# Altium footprint library Connectors.PcbLib: 13 footprints
Each footprint in its own frame and in the unit in brackets; x right, y up, seen from the top. Pads: shape width x height; smd on the part's side, far side on the other; paste and mask are expansions set on the pad; w line width, h text height; cw(c..) or ccw(c..) is an arc to the next point about the centre after c.
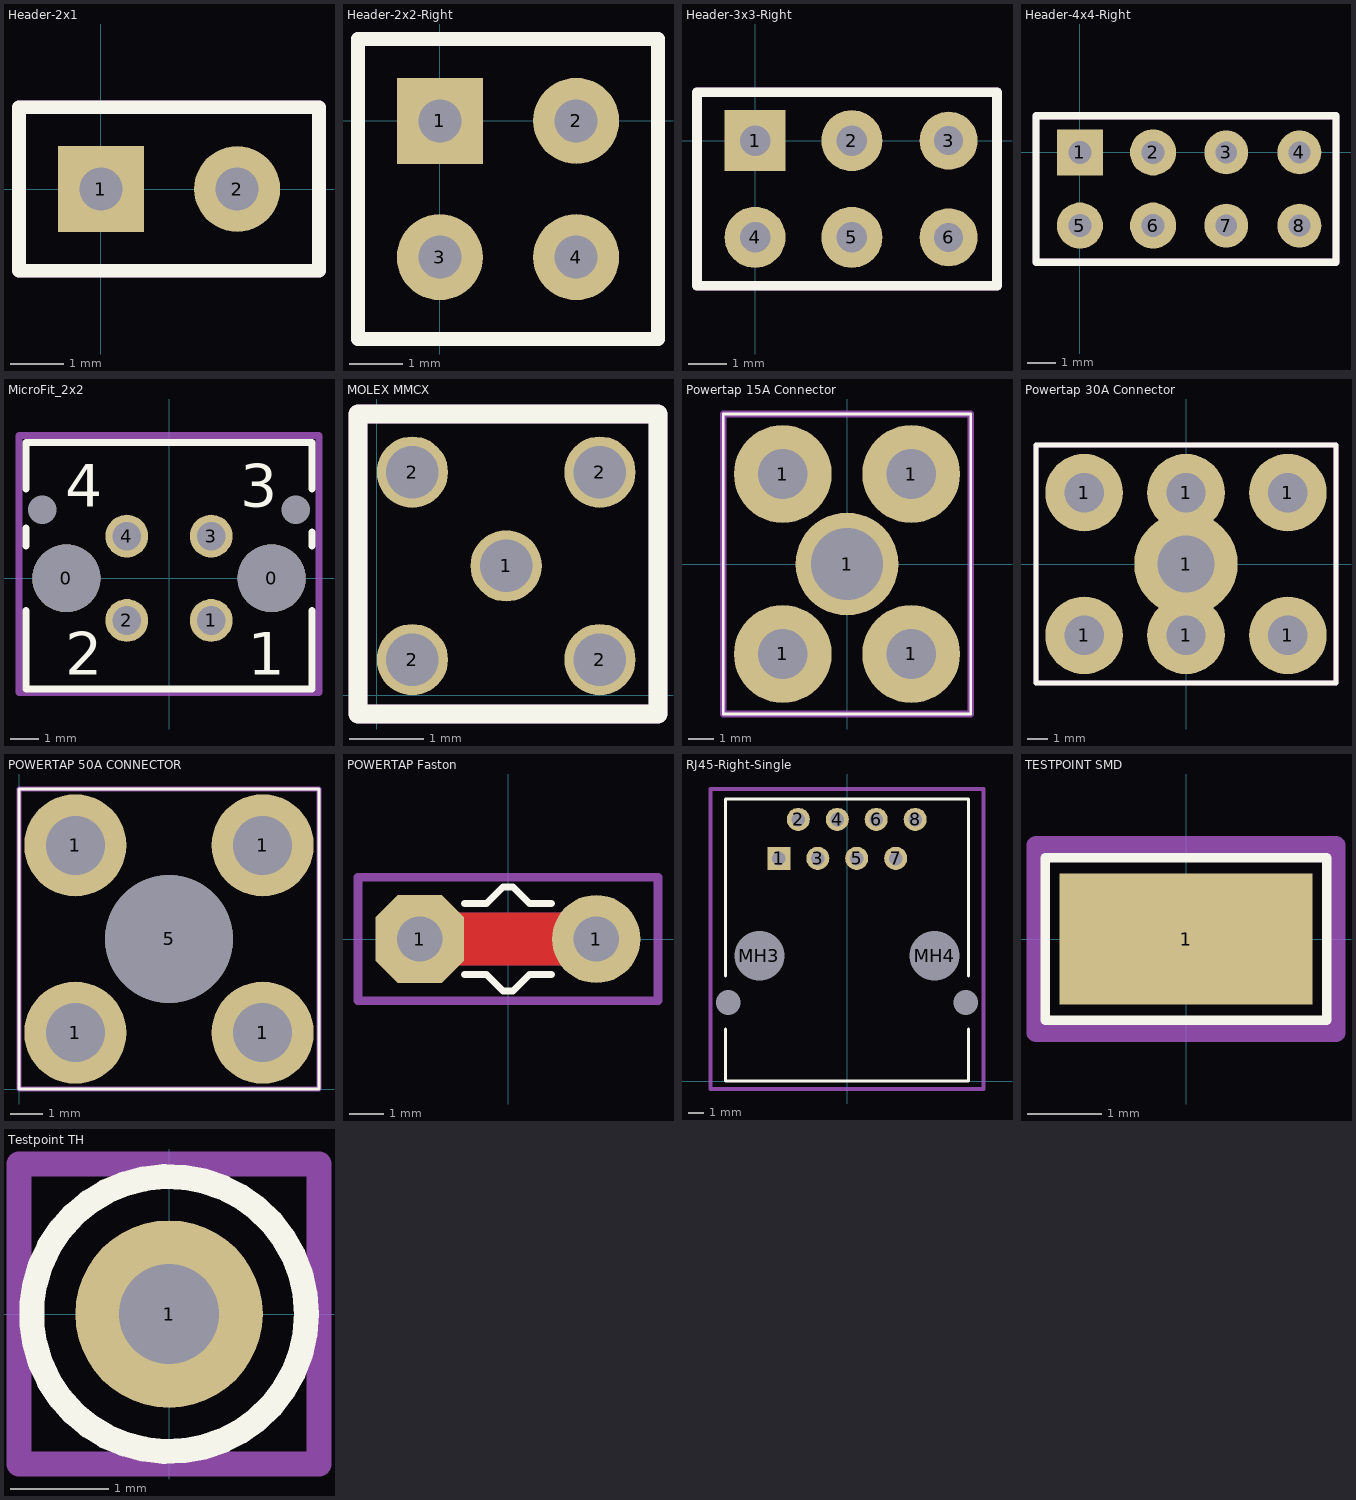
[diagram p0: the footprints below, top view; thin cyan lines are the x and y axes]

## Header-2x1 [mm] "BERGSTIK II SR RET_20Pins-2Rows"
pads (2):
  rect 1.6x1.6 hole 0.8: 1(0,0)
  round 1.6 hole 0.8: 2(2.54,0)
Top Overlay:
  lines w0.254: -1.524,-1.524 -1.524,0 -1.524,1.524 3.81,1.524 4.064,1.524 4.064,-1.524 -1.524,-1.524
Mechanical 15:
  lines w0.254: -1.524,-1.524 -1.524,1.524 4.064,1.524 4.064,-1.524 -1.524,-1.524
  text "'.Designator'" at -1.27,-0.254 h1
3D body: height 0, standoff -4.1, extent -0.496,-0.499 0.5,0.499

## Header-2x2-Right [mm] "BERGSTIK II SR RIGHT ANGLE RET_20Pins-2Rows"
pads (4):
  rect 1.6x1.6 hole 0.8: 1(0,0)
  round 1.6 hole 0.8: 2(2.54,0) 3(0,-2.54) 4(2.54,-2.54)
Top Overlay:
  lines w0.254: -1.524,-4.064 4.064,-4.064 4.064,1.524 3.81,1.524 -1.524,1.524 -1.524,0 -1.524,-4.064
Mechanical 15:
  lines w0.254: -1.524,-4.064 4.064,-4.064 4.064,1.524 -1.524,1.524 -1.524,-4.064
  text "'.Designator'" at -1.016,-1.524 h1
3D body: height 0, standoff -4.1, extent -0.496,-0.499 0.5,0.499

## Header-3x3-Right [mm] "BERGSTIK II SR RIGHT ANGLE RET_20Pins-2Rows"
pads (6):
  rect 1.6x1.6 hole 0.8: 1(0,0)
  round 1.6 hole 0.8: 2(2.54,0) 4(0,-2.54) 5(2.54,-2.54)
  round 1.524 hole 0.762: 3(5.08,0) 6(5.08,-2.54)
Top Overlay:
  lines w0.254: -1.524,-3.81 6.35,-3.81 6.35,1.27 -1.524,1.27 -1.524,-3.81
Mechanical 15:
  lines w0.254: -1.524,-3.81 -1.524,1.27 6.35,1.27 6.35,-3.81 -1.524,-3.81
  text "'.Designator'" at 0.254,-1.524 h1
3D body: height 0, standoff -4.1, extent -0.496,-0.499 0.5,0.499

## Header-4x4-Right [mil] "BERGSTIK II SR RIGHT ANGLE RET_20Pins-2Rows"
pads (8):
  rect 62.99x62.99 hole 31.5: 1(0,0)
  round 62.99 hole 31.5: 2(100,0) 5(0,-100) 6(100,-100)
  round 60 hole 30: 3(200,0) 4(300,0) 7(200,-100) 8(300,-100)
Top Overlay:
  lines w10: -60,-150 -60,50 350,50 350,-150 -60,-150
Mechanical 15:
  lines w10: -60,-150 350,-150 350,50 -60,50 -60,-150
  text "'.Designator'" at 70,-60 h39.37
3D body: height 0, standoff -161.42, extent -19.53,-19.64 19.69,19.65

## MicroFit_2x2 [mil] "4 Position MicroFit 3.0 Connection (2x2)"
height 390
pads (8):
  round 0 hole 40: 0(-177.17,96.06) 0(177.17,96.06)
  round 95 hole 95: 0(-143.7,0) 0(143.7,0)
  round 60 hole 40: 1(59.06,-59.06) 2(-59.06,-59.06) 3(59.06,59.06) 4(-59.06,59.06)
Top Overlay:
  lines w10: -200,-45 -200,-154.91 -199.8,-155.11 199.81,-155.11 200,-154.92 200,-45 ; -200,45 -200,70 ; -200,125 -200,189.96 ; -199.8,190.16 199.81,190.16 200,189.97 200,125 ; 200,45 200,65
  text "1" at 110,-135 h60
  text "3" at 100,100 h60
  text "2" at -145,-135 h60
  text "4" at -145,100 h60
Mechanical 15:
  lines w10: -210,-160 210,-160 210,200 -210,200 -210,-160
  text "'.Designator'" at -90,-10 h39.37
3D body "WM3252-ND.stp": height 389.88, standoff -125.47, extent -199.8,-155.11 199.81,190.16

## MOLEX MMCX [mil]
height 174
pads (5):
  round 38 hole 28: 1(69,69) 2(19,19) 2(19,119) 2(119,19) 2(119,119)
Top Overlay:
  lines w10: -10,-10 150,-10 150,150 -10,150 -10,-10
Mechanical 15:
  lines w10: -10,-10 -10,150 150,150 150,-10 -10,-10
  text "'.Designator'" at -10,60 h39.37
3D body "Molex_MMCX.stp": height 174, standoff -119.41, extent 0,0.01 138,138

## Powertap 15A Connector [mm] "8191-SEMS"
height 6.172
pads (5):
  round 3.81 hole 1.93: 1(-2.5,-3.505) 1(-2.5,3.505) 1(2.5,-3.505) 1(2.5,3.505)
  round 4 hole 2.794: 1(0,0)
Top Overlay:
  lines w0.1: -4.826,-5.842 4.826,-5.842 4.826,5.842 -4.826,5.842 -4.826,-5.842
Mechanical 15:
  lines w0.254: -4.826,-5.842 4.826,-5.842 4.826,5.842 -4.826,5.842 -4.826,-3.556 -4.826,-5.842
  text "'.Designator'" at -4.826,-0.508 h2
3D body "keystone-PN8191-SEMS.STEP": height 17.55, standoff -6.92, extent -3.881,-3.943 3.993,4.007

## Powertap 30A Connector [mil] "8199K-ND"
height 340
pads (7):
  round 150 hole 76: 1(-197,-138) 1(-197,138) 1(0,-138) 1(0,138) 1(197,-138) 1(197,138)
  round 200 hole 110: 1(0,0)
Top Overlay:
  lines w10: -290,-230 290,-230 290,230 -290,230 -290,-230
Mech3 TopAssembly:
  lines w10: 170,-230 290,-230
Mechanical 15:
  lines w10: -290,-230 290,-230 290,230 -290,230 -290,-230
  text "'.Designator'" at -280,-10 h78.74
3D body "8199K-ND.STEP": height 382.68, standoff -210, extent -252.08,-184.03 254.92,187.97

## POWERTAP 50A CONNECTOR [mm] "732-10883-1-ND"
height 3
pads (5):
  round 3.2 hole 1.85: 1(1.765,1.765) 1(1.765,7.635) 1(7.635,1.765) 1(7.635,7.635)
  round 4 hole 4: 5(4.7,4.7)
Top Overlay:
  lines w0.1: 0,0 9.4,0 9.4,9.4 0,9.4 0,0
Mechanical 15:
  lines w0.15: 0,0 9.4,0 9.4,9.4 0,9.4 0,0
  text "'.Designator'" at 3.1,8.8 h0.8

## POWERTAP Faston [mm] "Terminal Faston Tab .250"
height 10.2
pads (2):
  oct 2.54x2.54 hole 1.3: 1(-2.54,0)
  round 2.54 hole 1.3: 1(2.54,0)
Top Layer:
  lines w1.524: -2.54,0 2.54,0
Bottom Layer:
  lines w1.524: -2.54,0 2.54,0
Top Overlay:
  lines w0.2: -1.25,-1.025 -0.625,-1.025 -0.15,-1.5 0.15,-1.5 0.625,-1.025 1.25,-1.025 ; -1.25,1.025 -0.625,1.025 -0.15,1.5 0.15,1.5 0.625,1.025 1.25,1.025
Mech3 TopAssembly:
  lines w0.254: 4.064,-1.778 4.318,-1.778
  text "'.Designator'" at -1.016,-0.254 h1
Mechanical 15:
  lines w0.254: 4.064,-1.778 -4.064,-1.778 -4.318,-1.778 -4.318,-1.524 -4.318,1.778 4.318,1.778 4.318,-1.778
  text "'.Designator'" at -2.032,-0.508 h1
3D body "FASTON-PCB.STEP": height 10.24, standoff -3.78, extent -3.96,-1.544 3.96,1.547

## RJ45-Right-Single [mm] "RJ45-Connector; PCB Jack, Thru-Hole; 1-Port, 8 Positions, 8 Loaded; Shielded without Lightpipes; Right Angle"
height 12.09
pads (12):
  rect 1.5x1.5 hole 0.9: 1(-4.445,14.529)
  round 1.5 hole 0.9: 2(-3.175,17.069) 3(-1.905,14.529) 4(-0.635,17.069) 5(0.635,14.529) 6(1.905,17.069) 7(3.175,14.529) 8(4.445,17.069)
  round 0 hole 1.6: MH1(-7.747,5.131) MH2(7.747,5.131)
  round 2.95 hole 3.25 unplated: MH3(-5.715,8.179) MH4(5.715,8.179)
Top Overlay:
  lines w0.2: -7.925,0 -7.925,3.407 ; -7.925,6.855 -7.925,18.39 7.925,18.39 7.925,6.855 ; -7.885,0 7.925,0 7.925,3.407
Mechanical 15:
  lines w0.254: -8.89,-0.508 -8.89,19.05 -8.382,19.05 8.89,19.05 8.89,-0.508 -8.89,-0.508
  text "'.Designator'" at -4.572,10.922 h2
3D body "43202-8916.stp": height 11.71, standoff -4.34, extent -8.15,0.053 8.208,18.697

## TESTPOINT SMD [mm] "Test Point, Mini SMD, 2.67 x 1.02 mm"
height 1.52
pads (1):
  rect 3.43x1.78 smd: 1(0,0)
Top Overlay:
  lines w0.127: -1.905,-1.1 -1.905,1.1 1.905,1.1 1.905,-1.1 -1.905,-1.1
Mechanical 15:
  lines w0.254: -2.032,-1.27 -2.032,1.27 2.032,1.27 2.032,-1.016 2.032,-1.27 -2.032,-1.27
  text "'.Designator'" at -2.032,-0.254 h1

## Testpoint TH [mil] "Test Point Drill: 45mils"
pads (1):
  round 75 hole 40: 1(0,0)
Top Overlay:
  circle w10: c0,0 r55
Mechanical 15:
  lines w10: -60,-60 -60,0 -60,60 60,60 60,-60 -60,-60
  text "'.Designator'" at -40,-10 h39.37
3D body "KeystoneTP.step": height 192.34, standoff -121.02, extent -50,-50 50,50